# EAGLE library part MCP3004 (library HermitRetro)
MCP3004 SPI ADC
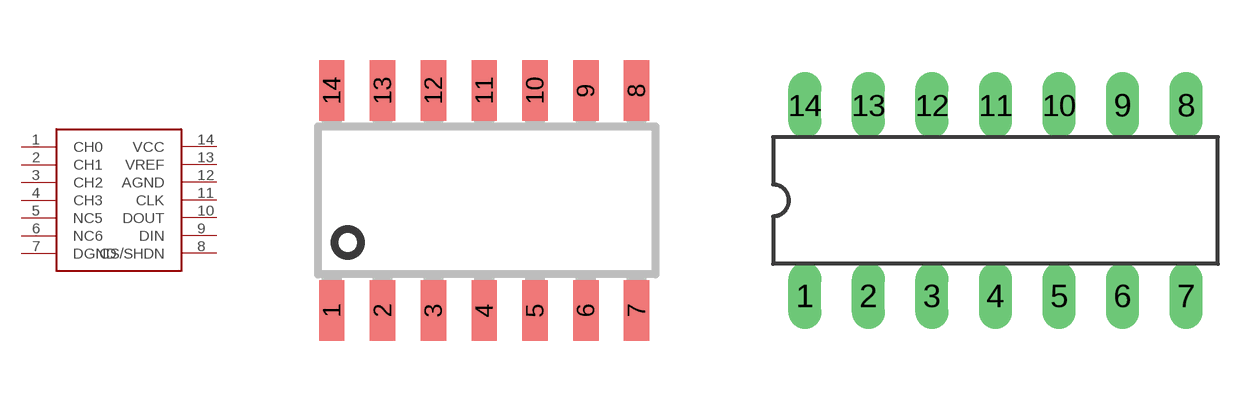
[diagram p14: symbol with the pads of SOIC14; footprints SOIC14, DIL14]

Designator prefix -

## MCP3004-SOIC (UNIT_PRICE: 1.71; VENDOR_ID: RS Components; VENDOR_SKU: 669-6060)  [SOIC14]
1  CH0
2  CH1
3  CH2
4  CH3
5  NC5
6  NC6
7  DGND
8  CS/SHDN
9  DIN
10  DOUT
11  CLK
12  AGND
13  VREF
14  VCC

## MCP3004-PDIP (UNIT_PRICE: 1.71; VENDOR_ID: RS Components; VENDOR_SKU: 669-6067)  [DIL14]
Pads as for SOIC14

## Footprint SOIC14 (pad centres in mm)
SOIC-14
smd 0.635 x 1.524: 1 -4.445,-2.695; 2 -3.175,-2.695; 3 -1.905,-2.695; 4 -0.635,-2.695; 5 0.635,-2.695; 6 1.905,-2.695; 7 3.175,-2.695; 8 3.175,2.805; 9 1.905,2.805; 10 0.635,2.805; 11 -0.635,2.805; 12 -1.905,2.805; 13 -3.175,2.805; 14 -4.445,2.805

## Footprint DIL14 (pad centres in mm)
Dual In Line package type P
drill 0.813 long: 1 -10.16,-3.81; 2 -7.62,-3.81; 3 -5.08,-3.81; 4 -2.54,-3.81; 5 0,-3.81; 6 2.54,-3.81; 7 5.08,-3.81; 8 5.08,3.81; 9 2.54,3.81; 10 0,3.81; 11 -2.54,3.81; 12 -5.08,3.81; 13 -7.62,3.81; 14 -10.16,3.81